# Altium footprint library diod.PcbLib: 2 footprints
Each footprint in its own frame and in the unit in brackets; x right, y up, seen from the top. Pads: shape width x height; smd on the part's side, far side on the other; paste and mask are expansions set on the pad; w line width, h text height; cw(c..) or ccw(c..) is an arc to the next point about the centre after c.
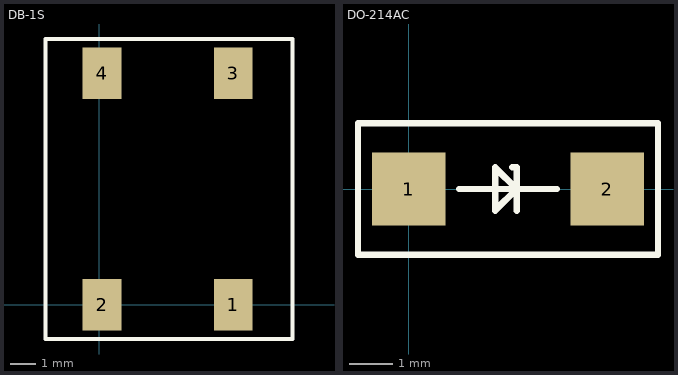
[diagram p0: the footprints below, top view; thin cyan lines are the x and y axes]

## DB-1S [mm]
pads (4):
  rect 1.5x2 smd: 1(5.2,0) 2(0.1,0) 3(5.2,9) 4(0.1,9)
Top Overlay:
  lines w0.15: -2.1,-1.325 -2.1,10.325 7.5,10.325 7.5,-1.325 -2.1,-1.325
3D body "User Library-DB-1S.STEP": height 3.4, standoff 0, extent -1.875,-0.525 7.275,9.525

## DO-214AC [mm]
pads (2):
  rect 1.7x1.7 smd: 1(0,0) 2(4.6,0)
Top Overlay:
  lines w0.15: 1.175,0 3.425,0 ; 2.4,0.5 2.5,0.5 2.5,-0.5 ; -1.175,-1.525 -1.175,1.525 5.775,1.525 5.775,-1.525 -1.175,-1.525 ; 2,-0.5 2,0.5 2.5,0 2,-0.5
3D body "SW3dPS-DO-214AC SMA.STEP": height 2.4, standoff 0, extent -0.3,-1.3 4.9,1.3